# EAGLE library part INA105U (library burr-brown)
Precision Unity Gain Differential Amplifier
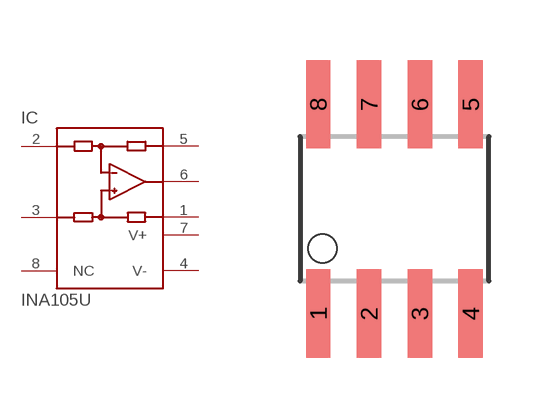
[diagram p262: symbol with the pads of SO-08; footprint SO-08]

Designator prefix IC

## INA105U  [SO-08]
1  REF  pas
2  -IN  in
3  +IN  in
4  V-  pwr
5  SENSE  pas
6  OUT  out
7  V+  pwr
8  NC  nc

## Footprint SO-08 (pad centres in mm)
smd 0.61 x 2.21: 1 -1.905,-2.616; 2 -0.635,-2.616; 3 0.635,-2.616; 4 1.905,-2.616; 5 1.905,2.616; 6 0.635,2.616; 7 -0.635,2.616; 8 -1.905,2.616